# Altium integrated library Cypress Clocks & Buffers Clock Distribution.IntLib: 321 symbols (part 17 of 25)
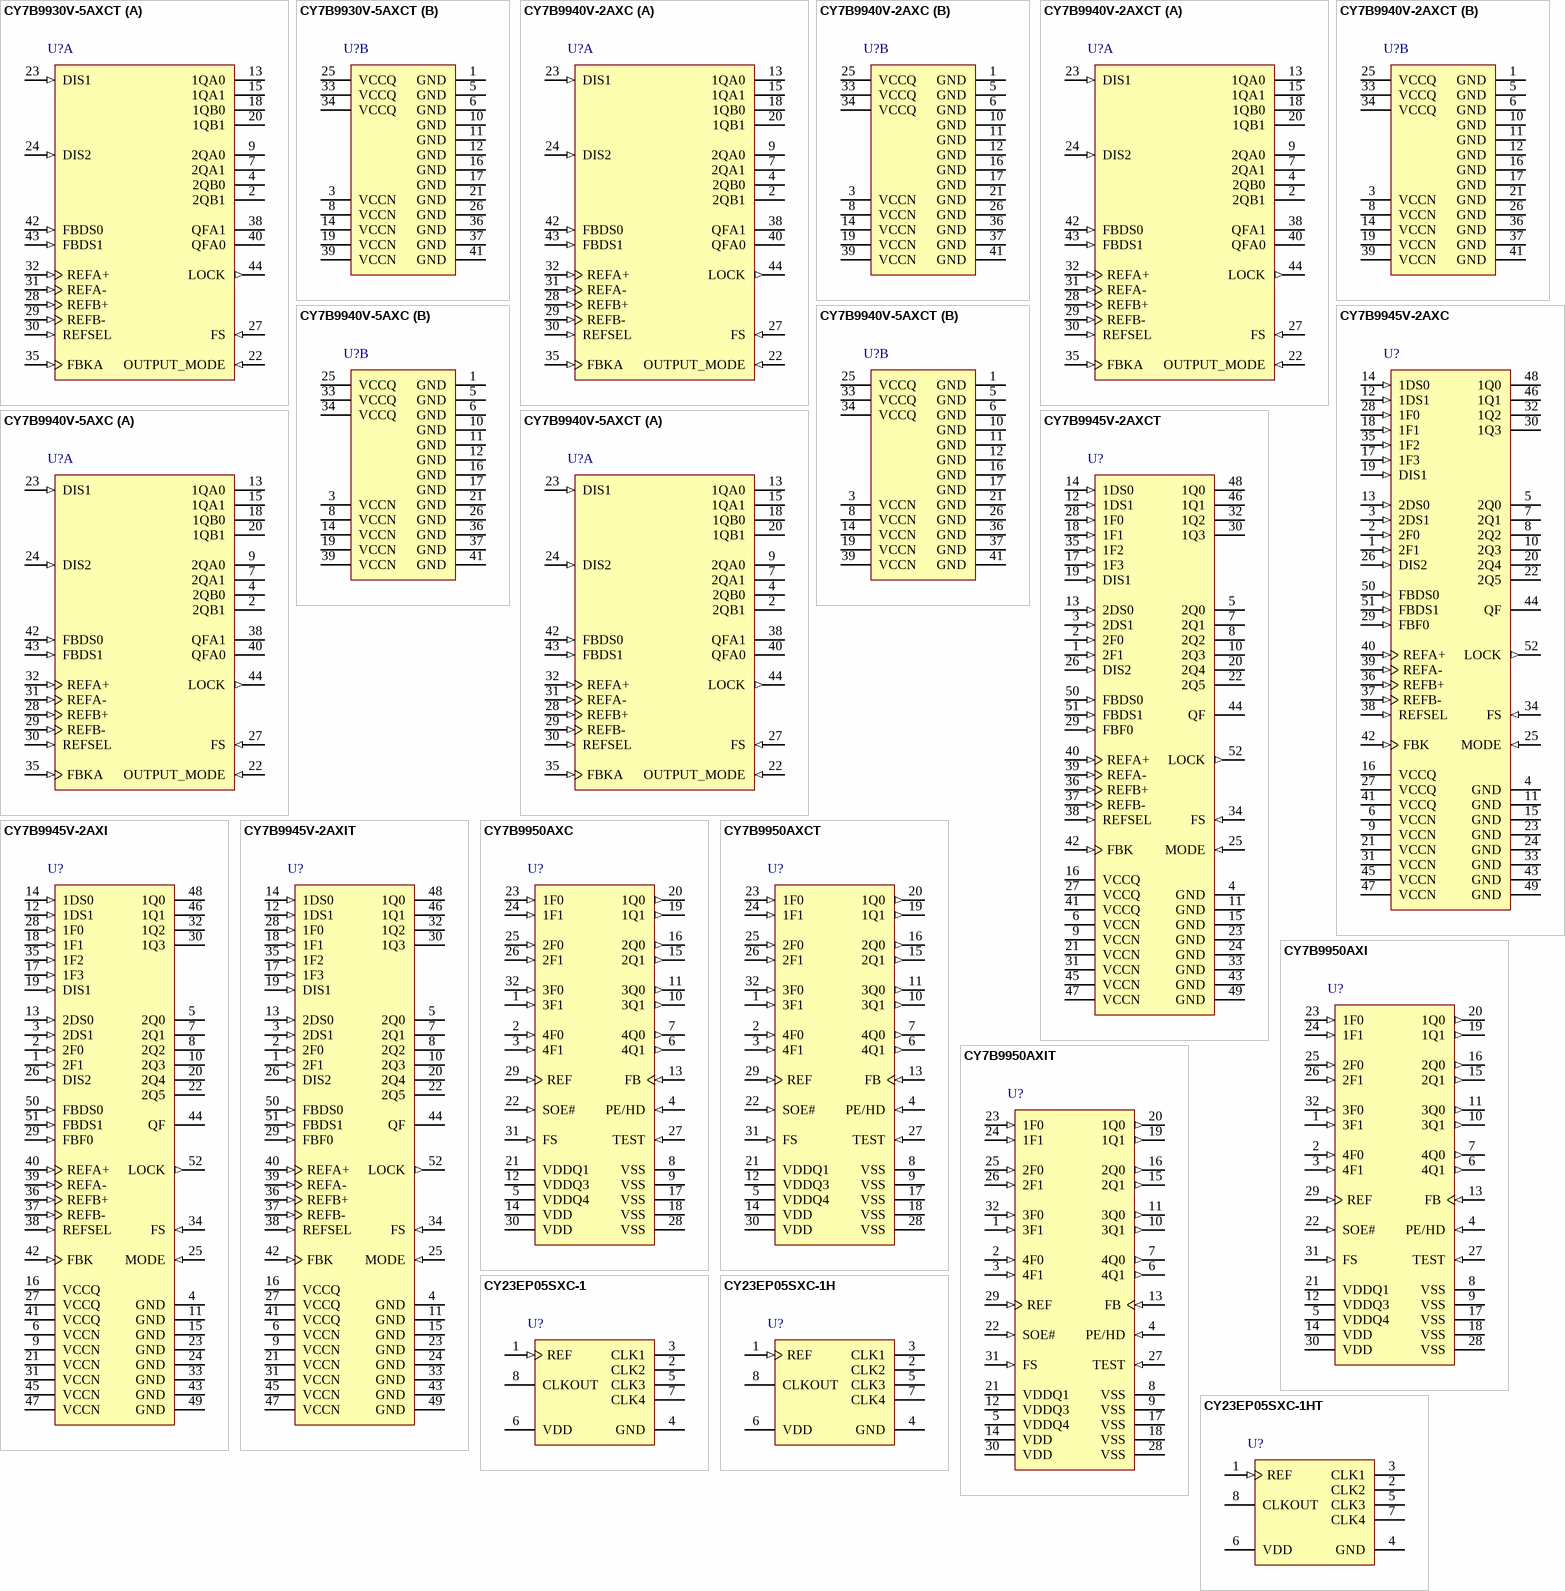
[diagram p32: symbols CY7B9930V-5AXCT to CY23EP05SXC-1HT]

## CY23EP05SXC-1HT
designator U?
Zero Delay Buffer, 2.5 / 3.3 V, 5 Outputs, 10 to 220 MHz, 0 to 70 degC, 8-Pin SOIC (SX8), Tape and Reel; Manufacturer: Cypress; PartNumber: CY23EP05SXC-1HT; Input Frequency Max. (MHz): 220; Input Frequency Min. (MHz): 10; Max. Operating Voltage (V): 3.6; Min. Operating Voltage (V): 2.3; No. of Outputs: 5; DatasheetVersion: Rev. *C; PackageVersion: Rev. *E, 06/2011; PackageReference: SX8; PackageDescription: 8-pin Lead SOIC-S08, Body 4.89 x 3.90 mm,Pitch 1.27 mm; Supplier 1: Digi-Key; Supplier Part Number 1: CY23EP05SXC-1HT-ND; Supplier 2: Mouser; Supplier Part Number 2: 727-CY23EP05SXC-1HT; Max. Operating Temp. (degreesC): 70; Min. Operating Temp. (degreesC): 0; Output Frequency Max. (MHz): 220; Output Frequency Min. (MHz): 10; Packing: Tape and Reel; RoHS: Pb-Free; Mounting Technology: Surface Mount; Code_JEDEC: MS-012; ComponentLink1Description: Manufacturer URL; ComponentLink1URL: http://www.cypress.com/; ComponentLink2Description: Datasheet; ComponentLink2URL: http://www.cypress.com/?docID=29615; ComponentLink3Description: Package Specification; ComponentLink3URL: http://www.cypress.com/?docID=39153
footprint CYP-SX8_N (SOIC, 8-Leads, Body 4.89x3.90mm, Pitch 1.27mm, IPC Medium Density)
footprint CYP-SX8_L (SOIC, 8-Leads, Body 4.89x3.90mm, Pitch 1.27mm, IPC High Density)
footprint CYP-SX8_M (SOIC, 8-Leads, Body 4.89x3.90mm, Pitch 1.27mm, IPC Low Density)
pins: 1 REF (in) "Input reference frequency", 2 CLK2 (hiz) "Buffered clock output", 3 CLK1 (hiz) "Buffered clock output", 4 GND (power) "Ground", 5 CLK3 (hiz) "Buffered clock output", 6 VDD (power) "3.3 V or 2.5 V supply", 7 CLK4 (hiz) "Buffered clock output", 8 CLKOUT (hiz) "Buffered clock output, internal feedback on this pin"

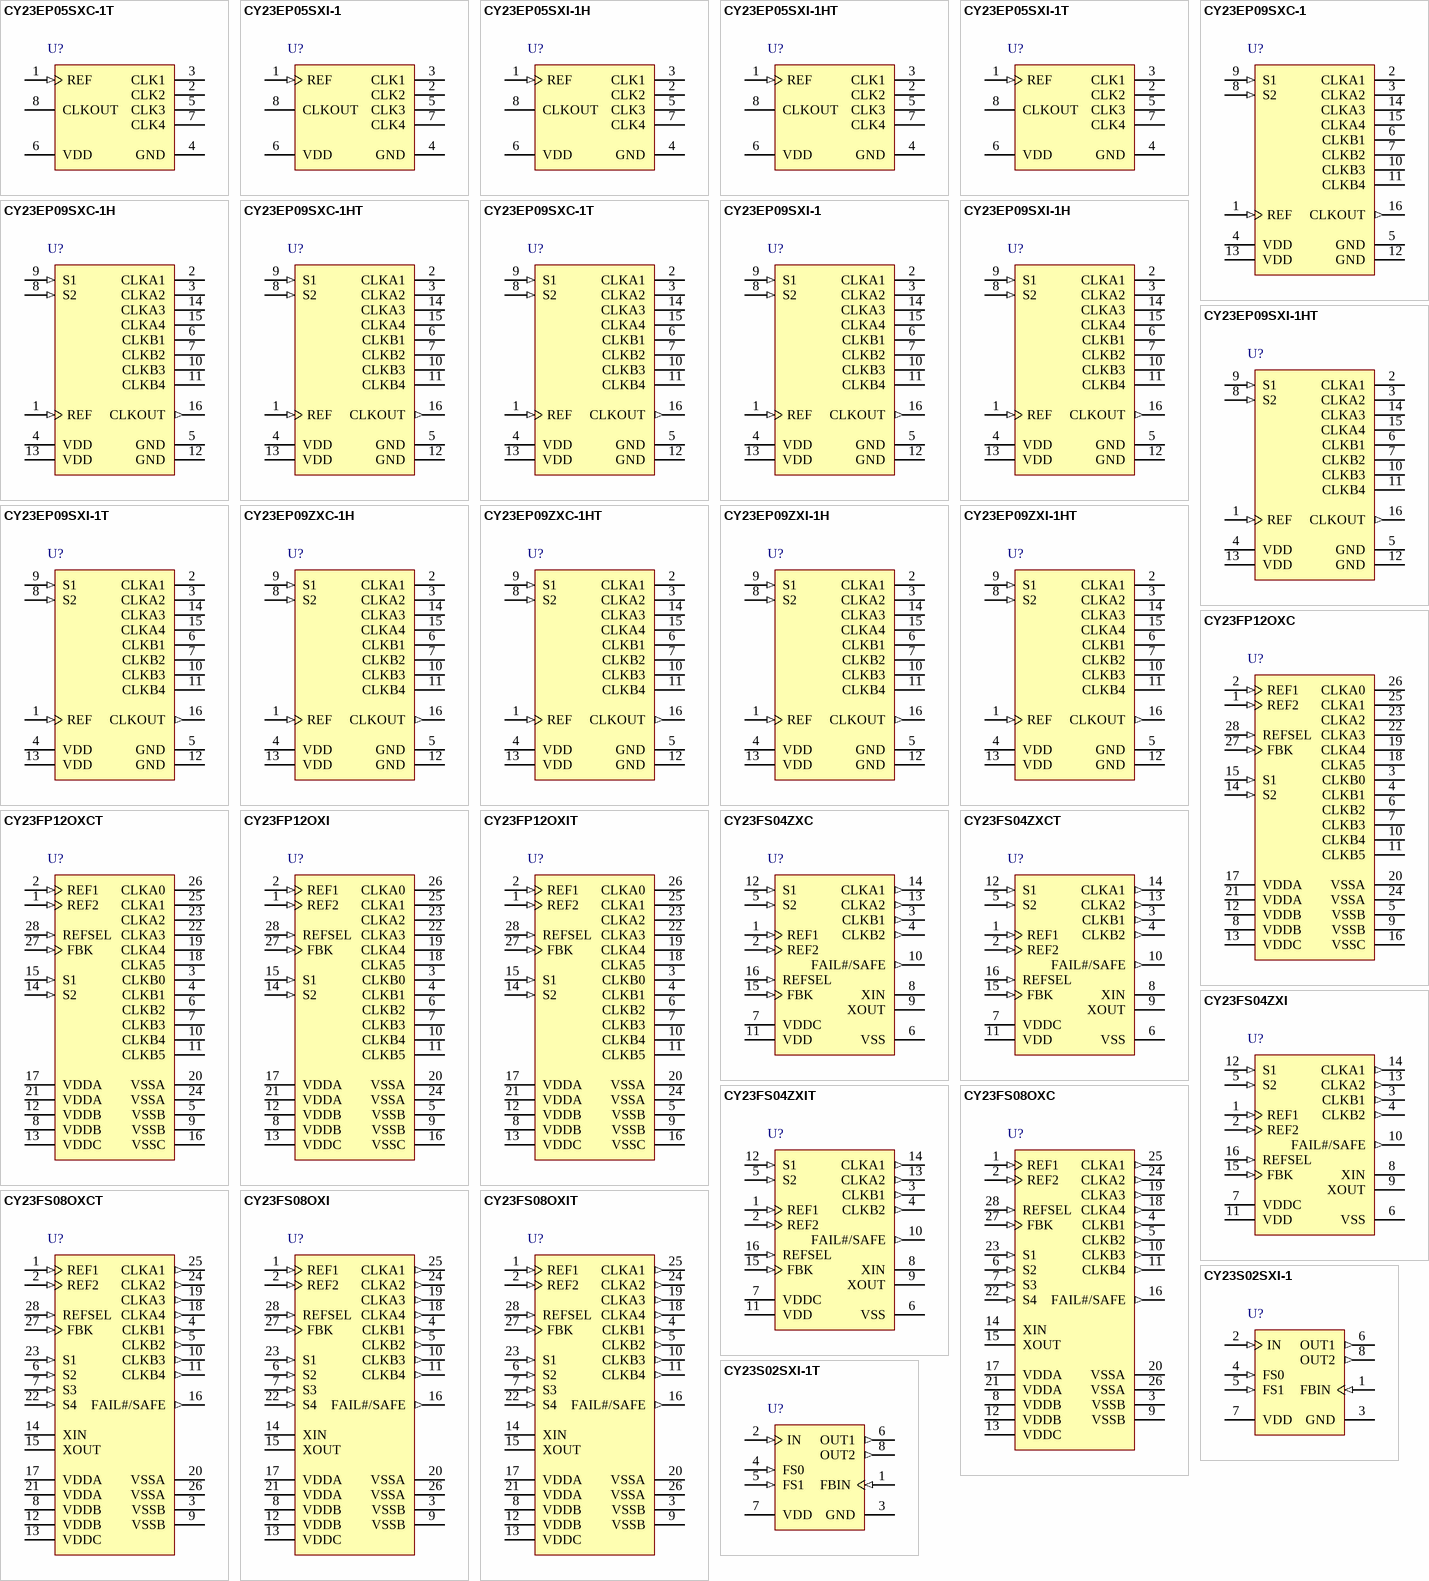
[diagram p10: symbols CY23EP05SXC-1T to CY23S02SXI-1T]

## CY23EP05SXC-1T
designator U?
Zero Delay Buffer, 2.5 / 3.3 V, 5 Outputs, 10 to 220 MHz, 0 to 70 degC, 8-Pin SOIC (SX8), Tape and Reel; Manufacturer: Cypress; PartNumber: CY23EP05SXC-1T; Input Frequency Max. (MHz): 220; Input Frequency Min. (MHz): 10; Max. Operating Voltage (V): 3.6; Min. Operating Voltage (V): 2.3; No. of Outputs: 5; DatasheetVersion: Rev. *C; PackageVersion: Rev. *E, 06/2011; PackageReference: SX8; PackageDescription: 8-pin Lead SOIC-S08, Body 4.89 x 3.90 mm,Pitch 1.27 mm; Supplier 1: Digi-Key; Supplier Part Number 1: CY23EP05SXC-1T-ND; Supplier 2: Mouser; Supplier Part Number 2: 727-CY23EP05SXC-1T; Max. Operating Temp. (degreesC): 70; Min. Operating Temp. (degreesC): 0; Output Frequency Max. (MHz): 220; Output Frequency Min. (MHz): 10; Packing: Tape and Reel; RoHS: Pb-Free; Mounting Technology: Surface Mount; Code_JEDEC: MS-012; ComponentLink1Description: Manufacturer URL; ComponentLink1URL: http://www.cypress.com/; ComponentLink2Description: Datasheet; ComponentLink2URL: http://www.cypress.com/?docID=29615; ComponentLink3Description: Package Specification; ComponentLink3URL: http://www.cypress.com/?docID=39153
footprint CYP-SX8_N (SOIC, 8-Leads, Body 4.89x3.90mm, Pitch 1.27mm, IPC Medium Density)
footprint CYP-SX8_L (SOIC, 8-Leads, Body 4.89x3.90mm, Pitch 1.27mm, IPC High Density)
footprint CYP-SX8_M (SOIC, 8-Leads, Body 4.89x3.90mm, Pitch 1.27mm, IPC Low Density)
pins: 1 REF (in) "Input reference frequency", 2 CLK2 (hiz) "Buffered clock output", 3 CLK1 (hiz) "Buffered clock output", 4 GND (power) "Ground", 5 CLK3 (hiz) "Buffered clock output", 6 VDD (power) "3.3 V or 2.5 V supply", 7 CLK4 (hiz) "Buffered clock output", 8 CLKOUT (hiz) "Buffered clock output, internal feedback on this pin"

## CY23EP05SXI-1
designator U?
Zero Delay Buffer, 2.5 / 3.3 V, 5 Outputs, 10 to 220 MHz, -40 to 85 degC, 8-Pin SOIC (SX8), Tube; Manufacturer: Cypress; PartNumber: CY23EP05SXI-1; Input Frequency Max. (MHz): 220; Input Frequency Min. (MHz): 10; Max. Operating Voltage (V): 3.6; Min. Operating Voltage (V): 2.3; No. of Outputs: 5; DatasheetVersion: Rev. *C; PackageVersion: Rev. *E, 06/2011; PackageReference: SX8; PackageDescription: 8-pin Lead SOIC-S08, Body 4.89 x 3.90 mm,Pitch 1.27 mm; Supplier 1: Digi-Key; Supplier Part Number 1: CY23EP05SXI-1-ND; Supplier 2: Mouser; Supplier Part Number 2: 727-CY23EP05SXI-1; Max. Operating Temp. (degreesC): 85; Min. Operating Temp. (degreesC): -40; Output Frequency Max. (MHz): 220; Output Frequency Min. (MHz): 10; Packing: Tube; RoHS: Pb-Free; Mounting Technology: Surface Mount; Code_JEDEC: MS-012; ComponentLink1Description: Manufacturer URL; ComponentLink1URL: http://www.cypress.com/; ComponentLink2Description: Datasheet; ComponentLink2URL: http://www.cypress.com/?docID=29615; ComponentLink3Description: Package Specification; ComponentLink3URL: http://www.cypress.com/?docID=39153
footprint CYP-SX8_N (SOIC, 8-Leads, Body 4.89x3.90mm, Pitch 1.27mm, IPC Medium Density)
footprint CYP-SX8_L (SOIC, 8-Leads, Body 4.89x3.90mm, Pitch 1.27mm, IPC High Density)
footprint CYP-SX8_M (SOIC, 8-Leads, Body 4.89x3.90mm, Pitch 1.27mm, IPC Low Density)
pins: 1 REF (in) "Input reference frequency", 2 CLK2 (hiz) "Buffered clock output", 3 CLK1 (hiz) "Buffered clock output", 4 GND (power) "Ground", 5 CLK3 (hiz) "Buffered clock output", 6 VDD (power) "3.3 V or 2.5 V supply", 7 CLK4 (hiz) "Buffered clock output", 8 CLKOUT (hiz) "Buffered clock output, internal feedback on this pin"

## CY23EP05SXI-1H
designator U?
Zero Delay Buffer, 2.5 / 3.3 V, 5 Outputs, 10 to 220 MHz, -40 to 85 degC, 8-Pin SOIC (SX8), Tube; Manufacturer: Cypress; PartNumber: CY23EP05SXI-1H; Input Frequency Max. (MHz): 220; Input Frequency Min. (MHz): 10; Max. Operating Voltage (V): 3.6; Min. Operating Voltage (V): 2.3; No. of Outputs: 5; DatasheetVersion: Rev. *C; PackageVersion: Rev. *E, 06/2011; PackageReference: SX8; PackageDescription: 8-pin Lead SOIC-S08, Body 4.89 x 3.90 mm,Pitch 1.27 mm; Supplier 1: Digi-Key; Supplier Part Number 1: CY23EP05SXI-1H-ND; Supplier 2: Mouser; Supplier Part Number 2: 727-CY23EP05SXI-1H; Max. Operating Temp. (degreesC): 85; Min. Operating Temp. (degreesC): -40; Output Frequency Max. (MHz): 220; Output Frequency Min. (MHz): 10; Packing: Tube; RoHS: Pb-Free; Mounting Technology: Surface Mount; Code_JEDEC: MS-012; ComponentLink1Description: Manufacturer URL; ComponentLink1URL: http://www.cypress.com/; ComponentLink2Description: Datasheet; ComponentLink2URL: http://www.cypress.com/?docID=29615; ComponentLink3Description: Package Specification; ComponentLink3URL: http://www.cypress.com/?docID=39153
footprint CYP-SX8_N (SOIC, 8-Leads, Body 4.89x3.90mm, Pitch 1.27mm, IPC Medium Density)
footprint CYP-SX8_L (SOIC, 8-Leads, Body 4.89x3.90mm, Pitch 1.27mm, IPC High Density)
footprint CYP-SX8_M (SOIC, 8-Leads, Body 4.89x3.90mm, Pitch 1.27mm, IPC Low Density)
pins: 1 REF (in) "Input reference frequency", 2 CLK2 (hiz) "Buffered clock output", 3 CLK1 (hiz) "Buffered clock output", 4 GND (power) "Ground", 5 CLK3 (hiz) "Buffered clock output", 6 VDD (power) "3.3 V or 2.5 V supply", 7 CLK4 (hiz) "Buffered clock output", 8 CLKOUT (hiz) "Buffered clock output, internal feedback on this pin"

## CY23EP05SXI-1HT
designator U?
Zero Delay Buffer, 2.5 / 3.3 V, 5 Outputs, 10 to 220 MHz, -40 to 85 degC, 8-Pin SOIC (SX8), Tape and Reel; Manufacturer: Cypress; PartNumber: CY23EP05SXI-1HT; Input Frequency Max. (MHz): 220; Input Frequency Min. (MHz): 10; Max. Operating Voltage (V): 3.6; Min. Operating Voltage (V): 2.3; No. of Outputs: 5; DatasheetVersion: Rev. *C; PackageVersion: Rev. *E, 06/2011; PackageReference: SX8; PackageDescription: 8-pin Lead SOIC-S08, Body 4.89 x 3.90 mm,Pitch 1.27 mm; Supplier 1: Digi-Key; Supplier Part Number 1: CY23EP05SXI-1HT-ND; Supplier 2: Mouser; Supplier Part Number 2: 727-CY23EP05SXI-1HT; Max. Operating Temp. (degreesC): 85; Min. Operating Temp. (degreesC): -40; Output Frequency Max. (MHz): 220; Output Frequency Min. (MHz): 10; Packing: Tape and Reel; RoHS: Pb-Free; Mounting Technology: Surface Mount; Code_JEDEC: MS-012; ComponentLink1Description: Manufacturer URL; ComponentLink1URL: http://www.cypress.com/; ComponentLink2Description: Datasheet; ComponentLink2URL: http://www.cypress.com/?docID=29615; ComponentLink3Description: Package Specification; ComponentLink3URL: http://www.cypress.com/?docID=39153
footprint CYP-SX8_N (SOIC, 8-Leads, Body 4.89x3.90mm, Pitch 1.27mm, IPC Medium Density)
footprint CYP-SX8_L (SOIC, 8-Leads, Body 4.89x3.90mm, Pitch 1.27mm, IPC High Density)
footprint CYP-SX8_M (SOIC, 8-Leads, Body 4.89x3.90mm, Pitch 1.27mm, IPC Low Density)
pins: 1 REF (in) "Input reference frequency", 2 CLK2 (hiz) "Buffered clock output", 3 CLK1 (hiz) "Buffered clock output", 4 GND (power) "Ground", 5 CLK3 (hiz) "Buffered clock output", 6 VDD (power) "3.3 V or 2.5 V supply", 7 CLK4 (hiz) "Buffered clock output", 8 CLKOUT (hiz) "Buffered clock output, internal feedback on this pin"

## CY23EP05SXI-1T
designator U?
Zero Delay Buffer, 2.5 / 3.3 V, 5 Outputs, 10 to 220 MHz, -40 to 85 degC, 8-Pin SOIC (SX8), Tape and Reel; Manufacturer: Cypress; PartNumber: CY23EP05SXI-1T; Input Frequency Max. (MHz): 220; Input Frequency Min. (MHz): 10; Max. Operating Voltage (V): 3.6; Min. Operating Voltage (V): 2.3; No. of Outputs: 5; DatasheetVersion: Rev. *C; PackageVersion: Rev. *E, 06/2011; PackageReference: SX8; PackageDescription: 8-pin Lead SOIC-S08, Body 4.89 x 3.90 mm,Pitch 1.27 mm; Supplier 1: Digi-Key; Supplier Part Number 1: CY23EP05SXI-1T-ND; Supplier 2: Mouser; Supplier Part Number 2: 727-CY23EP05SXI-1T; Max. Operating Temp. (degreesC): 85; Min. Operating Temp. (degreesC): -40; Output Frequency Max. (MHz): 220; Output Frequency Min. (MHz): 10; Packing: Tape and Reel; RoHS: Pb-Free; Mounting Technology: Surface Mount; Code_JEDEC: MS-012; ComponentLink1Description: Manufacturer URL; ComponentLink1URL: http://www.cypress.com/; ComponentLink2Description: Datasheet; ComponentLink2URL: http://www.cypress.com/?docID=29615; ComponentLink3Description: Package Specification; ComponentLink3URL: http://www.cypress.com/?docID=39153
footprint CYP-SX8_N (SOIC, 8-Leads, Body 4.89x3.90mm, Pitch 1.27mm, IPC Medium Density)
footprint CYP-SX8_L (SOIC, 8-Leads, Body 4.89x3.90mm, Pitch 1.27mm, IPC High Density)
footprint CYP-SX8_M (SOIC, 8-Leads, Body 4.89x3.90mm, Pitch 1.27mm, IPC Low Density)
pins: 1 REF (in) "Input reference frequency", 2 CLK2 (hiz) "Buffered clock output", 3 CLK1 (hiz) "Buffered clock output", 4 GND (power) "Ground", 5 CLK3 (hiz) "Buffered clock output", 6 VDD (power) "3.3 V or 2.5 V supply", 7 CLK4 (hiz) "Buffered clock output", 8 CLKOUT (hiz) "Buffered clock output, internal feedback on this pin"

## CY23EP09SXC-1
designator U?
Low Jitter, Zero Delay Buffer, 2.5 / 3.3 V, 9 Outputs, 10 to 220 MHz, 0 to 70 degC, 16-Pin SOIC (SX16), Tube; Manufacturer: Cypress; PartNumber: CY23EP09SXC-1; Input Frequency Max. (MHz): 220; Input Frequency Min. (MHz): 10; Max. Operating Voltage (V): 3.6; Min. Operating Voltage (V): 2.3; No. of Outputs: 9; DatasheetVersion: Rev. *C; PackageVersion: Rev. *E, 09/2012; PackageReference: SX16; PackageDescription: 16-Pin SOIC (150 MIL), Body 9.89 x 3.90 mm, Pitch 1.27 mm; Supplier 1: Digi-Key; Supplier Part Number 1: CY23EP09SXC-1-ND; Supplier 2: Mouser; Supplier Part Number 2: 727-CY23EP09SXC-1; Max. Operating Temp. (degreesC): 70; Min. Operating Temp. (degreesC): 0; Output Frequency Max. (MHz): 220; Output Frequency Min. (MHz): 10; Packing: Tube; RoHS: Pb-Free; Mounting Technology: Surface Mount; Code_JEDEC: MS-012; ComponentLink1Description: Manufacturer URL; ComponentLink1URL: http://www.cypress.com/; ComponentLink2Description: Datasheet; ComponentLink2URL: http://www.cypress.com/?docID=29430; ComponentLink3Description: Package Specification; ComponentLink3URL: http://www.cypress.com/?docID=39437
footprint CYP-SX16_N (SOIC, 16-Leads, Body 9.9x3.9mm, Pitch 1.27mm, IPC Medium Density)
footprint CYP-SX16_L (SOIC, 16-Leads, Body 9.9x3.9mm, Pitch 1.27mm, IPC High Density)
footprint CYP-SX16_M (SOIC, 16-Leads, Body 9.9x3.9mm, Pitch 1.27mm, IPC Low Density)
pins: 1 REF (in) "Input reference frequency", 2 CLKA1 (hiz) "Buffered clock output, Bank A", 3 CLKA2 (hiz) "Buffered clock output, Bank A", 4 VDD (power) "3.3 V or 2.5 V supply", 5 GND (power) "Ground", 6 CLKB1 (hiz) "Buffered clock output, Bank B", 7 CLKB2 (hiz) "Buffered clock output, Bank B", 8 S2 (in) "Select input, bit 2", 9 S1 (in) "Select input, bit 1", 10 CLKB3 (hiz) "Buffered clock output, Bank B", 11 CLKB4 (hiz) "Buffered clock output, Bank B", 12 GND (power) "Ground", 13 VDD (power) "3.3 V or 2.5 V supply", 14 CLKA3 (hiz) "Buffered clock output, Bank A", 15 CLKA4 (hiz) "Buffered clock output, Bank A", 16 CLKOUT (out) "Buffered output, internal feedback on this pin"

## CY23EP09SXC-1H
designator U?
Low Jitter, Zero Delay Buffer, 2.5 / 3.3 V, 9 Outputs, 10 to 220 MHz, 0 to 70 degC, 16-Pin SOIC (SX16), Tube; Manufacturer: Cypress; PartNumber: CY23EP09SXC-1H; Input Frequency Max. (MHz): 220; Input Frequency Min. (MHz): 10; Max. Operating Voltage (V): 3.6; Min. Operating Voltage (V): 2.3; No. of Outputs: 9; DatasheetVersion: Rev. *C; PackageVersion: Rev. *E, 09/2012; PackageReference: SX16; PackageDescription: 16-Pin SOIC (150 MIL), Body 9.89 x 3.90 mm, Pitch 1.27 mm; Supplier 1: Digi-Key; Supplier Part Number 1: CY23EP09SXC-1H-ND; Supplier 2: Mouser; Supplier Part Number 2: 727-CY23EP09SXC-1H; Max. Operating Temp. (degreesC): 70; Min. Operating Temp. (degreesC): 0; Output Frequency Max. (MHz): 220; Output Frequency Min. (MHz): 10; Packing: Tube; RoHS: Pb-Free; Mounting Technology: Surface Mount; Code_JEDEC: MS-012; ComponentLink1Description: Manufacturer URL; ComponentLink1URL: http://www.cypress.com/; ComponentLink2Description: Datasheet; ComponentLink2URL: http://www.cypress.com/?docID=29430; ComponentLink3Description: Package Specification; ComponentLink3URL: http://www.cypress.com/?docID=39437
footprint CYP-SX16_N (SOIC, 16-Leads, Body 9.9x3.9mm, Pitch 1.27mm, IPC Medium Density)
footprint CYP-SX16_L (SOIC, 16-Leads, Body 9.9x3.9mm, Pitch 1.27mm, IPC High Density)
footprint CYP-SX16_M (SOIC, 16-Leads, Body 9.9x3.9mm, Pitch 1.27mm, IPC Low Density)
pins: 1 REF (in) "Input reference frequency", 2 CLKA1 (hiz) "Buffered clock output, Bank A", 3 CLKA2 (hiz) "Buffered clock output, Bank A", 4 VDD (power) "3.3 V or 2.5 V supply", 5 GND (power) "Ground", 6 CLKB1 (hiz) "Buffered clock output, Bank B", 7 CLKB2 (hiz) "Buffered clock output, Bank B", 8 S2 (in) "Select input, bit 2", 9 S1 (in) "Select input, bit 1", 10 CLKB3 (hiz) "Buffered clock output, Bank B", 11 CLKB4 (hiz) "Buffered clock output, Bank B", 12 GND (power) "Ground", 13 VDD (power) "3.3 V or 2.5 V supply", 14 CLKA3 (hiz) "Buffered clock output, Bank A", 15 CLKA4 (hiz) "Buffered clock output, Bank A", 16 CLKOUT (out) "Buffered output, internal feedback on this pin"

## CY23EP09SXC-1HT
designator U?
Low Jitter, Zero Delay Buffer, 2.5 / 3.3 V, 9 Outputs, 10 to 220 MHz, 0 to 70 degC, 16-Pin SOIC (SX16), Tape and Reel; Manufacturer: Cypress; PartNumber: CY23EP09SXC-1HT; Input Frequency Max. (MHz): 220; Input Frequency Min. (MHz): 10; Max. Operating Voltage (V): 3.6; Min. Operating Voltage (V): 2.3; No. of Outputs: 9; DatasheetVersion: Rev. *C; PackageVersion: Rev. *E, 09/2012; PackageReference: SX16; PackageDescription: 16-Pin SOIC (150 MIL), Body 9.89 x 3.90 mm, Pitch 1.27 mm; Supplier 1: Digi-Key; Supplier Part Number 1: CY23EP09SXC-1HT-ND; Supplier 2: Mouser; Supplier Part Number 2: 727-CY23EP09SXC-1HT; Max. Operating Temp. (degreesC): 70; Min. Operating Temp. (degreesC): 0; Output Frequency Max. (MHz): 220; Output Frequency Min. (MHz): 10; Packing: Tape and Reel; RoHS: Pb-Free; Mounting Technology: Surface Mount; Code_JEDEC: MS-012; ComponentLink1Description: Manufacturer URL; ComponentLink1URL: http://www.cypress.com/; ComponentLink2Description: Datasheet; ComponentLink2URL: http://www.cypress.com/?docID=29430; ComponentLink3Description: Package Specification; ComponentLink3URL: http://www.cypress.com/?docID=39437
footprint CYP-SX16_N (SOIC, 16-Leads, Body 9.9x3.9mm, Pitch 1.27mm, IPC Medium Density)
footprint CYP-SX16_L (SOIC, 16-Leads, Body 9.9x3.9mm, Pitch 1.27mm, IPC High Density)
footprint CYP-SX16_M (SOIC, 16-Leads, Body 9.9x3.9mm, Pitch 1.27mm, IPC Low Density)
pins: 1 REF (in) "Input reference frequency", 2 CLKA1 (hiz) "Buffered clock output, Bank A", 3 CLKA2 (hiz) "Buffered clock output, Bank A", 4 VDD (power) "3.3 V or 2.5 V supply", 5 GND (power) "Ground", 6 CLKB1 (hiz) "Buffered clock output, Bank B", 7 CLKB2 (hiz) "Buffered clock output, Bank B", 8 S2 (in) "Select input, bit 2", 9 S1 (in) "Select input, bit 1", 10 CLKB3 (hiz) "Buffered clock output, Bank B", 11 CLKB4 (hiz) "Buffered clock output, Bank B", 12 GND (power) "Ground", 13 VDD (power) "3.3 V or 2.5 V supply", 14 CLKA3 (hiz) "Buffered clock output, Bank A", 15 CLKA4 (hiz) "Buffered clock output, Bank A", 16 CLKOUT (out) "Buffered output, internal feedback on this pin"

## CY23EP09SXC-1T
designator U?
Low Jitter, Zero Delay Buffer, 2.5 / 3.3 V, 9 Outputs, 10 to 220 MHz, 0 to 70 degC, 16-Pin SOIC (SX16), Tape and Reel; Manufacturer: Cypress; PartNumber: CY23EP09SXC-1T; Input Frequency Max. (MHz): 220; Input Frequency Min. (MHz): 10; Max. Operating Voltage (V): 3.6; Min. Operating Voltage (V): 2.3; No. of Outputs: 9; DatasheetVersion: Rev. *C; PackageVersion: Rev. *E, 09/2012; PackageReference: SX16; PackageDescription: 16-Pin SOIC (150 MIL), Body 9.89 x 3.90 mm, Pitch 1.27 mm; Supplier 1: Digi-Key; Supplier Part Number 1: CY23EP09SXC-1T-ND; Supplier 2: Mouser; Supplier Part Number 2: 727-CY23EP09SXC-1T; Max. Operating Temp. (degreesC): 70; Min. Operating Temp. (degreesC): 0; Output Frequency Max. (MHz): 220; Output Frequency Min. (MHz): 10; Packing: Tape and Reel; RoHS: Pb-Free; Mounting Technology: Surface Mount; Code_JEDEC: MS-012; ComponentLink1Description: Manufacturer URL; ComponentLink1URL: http://www.cypress.com/; ComponentLink2Description: Datasheet; ComponentLink2URL: http://www.cypress.com/?docID=29430; ComponentLink3Description: Package Specification; ComponentLink3URL: http://www.cypress.com/?docID=39437
footprint CYP-SX16_N (SOIC, 16-Leads, Body 9.9x3.9mm, Pitch 1.27mm, IPC Medium Density)
footprint CYP-SX16_L (SOIC, 16-Leads, Body 9.9x3.9mm, Pitch 1.27mm, IPC High Density)
footprint CYP-SX16_M (SOIC, 16-Leads, Body 9.9x3.9mm, Pitch 1.27mm, IPC Low Density)
pins: 1 REF (in) "Input reference frequency", 2 CLKA1 (hiz) "Buffered clock output, Bank A", 3 CLKA2 (hiz) "Buffered clock output, Bank A", 4 VDD (power) "3.3 V or 2.5 V supply", 5 GND (power) "Ground", 6 CLKB1 (hiz) "Buffered clock output, Bank B", 7 CLKB2 (hiz) "Buffered clock output, Bank B", 8 S2 (in) "Select input, bit 2", 9 S1 (in) "Select input, bit 1", 10 CLKB3 (hiz) "Buffered clock output, Bank B", 11 CLKB4 (hiz) "Buffered clock output, Bank B", 12 GND (power) "Ground", 13 VDD (power) "3.3 V or 2.5 V supply", 14 CLKA3 (hiz) "Buffered clock output, Bank A", 15 CLKA4 (hiz) "Buffered clock output, Bank A", 16 CLKOUT (out) "Buffered output, internal feedback on this pin"

## CY23EP09SXI-1
designator U?
Low Jitter, Zero Delay Buffer, 2.5 / 3.3 V, 9 Outputs, 10 to 220 MHz, -40 to 85 degC, 16-Pin SOIC (SX16), Tube; Manufacturer: Cypress; PartNumber: CY23EP09SXI-1; Input Frequency Max. (MHz): 220; Input Frequency Min. (MHz): 10; Max. Operating Voltage (V): 3.6; Min. Operating Voltage (V): 2.3; No. of Outputs: 9; DatasheetVersion: Rev. *C; PackageVersion: Rev. *E, 09/2012; PackageReference: SX16; PackageDescription: 16-Pin SOIC (150 MIL), Body 9.89 x 3.90 mm, Pitch 1.27 mm; Supplier 1: Digi-Key; Supplier Part Number 1: CY23EP09SXI-1-ND; Supplier 2: Mouser; Supplier Part Number 2: 727-CY23EP09SXI1; Max. Operating Temp. (degreesC): 85; Min. Operating Temp. (degreesC): -40; Output Frequency Max. (MHz): 220; Output Frequency Min. (MHz): 10; Packing: Tube; RoHS: Pb-Free; Mounting Technology: Surface Mount; Code_JEDEC: MS-012; ComponentLink1Description: Manufacturer URL; ComponentLink1URL: http://www.cypress.com/; ComponentLink2Description: Datasheet; ComponentLink2URL: http://www.cypress.com/?docID=29430; ComponentLink3Description: Package Specification; ComponentLink3URL: http://www.cypress.com/?docID=39437
footprint CYP-SX16_N (SOIC, 16-Leads, Body 9.9x3.9mm, Pitch 1.27mm, IPC Medium Density)
footprint CYP-SX16_L (SOIC, 16-Leads, Body 9.9x3.9mm, Pitch 1.27mm, IPC High Density)
footprint CYP-SX16_M (SOIC, 16-Leads, Body 9.9x3.9mm, Pitch 1.27mm, IPC Low Density)
pins: 1 REF (in) "Input reference frequency", 2 CLKA1 (hiz) "Buffered clock output, Bank A", 3 CLKA2 (hiz) "Buffered clock output, Bank A", 4 VDD (power) "3.3 V or 2.5 V supply", 5 GND (power) "Ground", 6 CLKB1 (hiz) "Buffered clock output, Bank B", 7 CLKB2 (hiz) "Buffered clock output, Bank B", 8 S2 (in) "Select input, bit 2", 9 S1 (in) "Select input, bit 1", 10 CLKB3 (hiz) "Buffered clock output, Bank B", 11 CLKB4 (hiz) "Buffered clock output, Bank B", 12 GND (power) "Ground", 13 VDD (power) "3.3 V or 2.5 V supply", 14 CLKA3 (hiz) "Buffered clock output, Bank A", 15 CLKA4 (hiz) "Buffered clock output, Bank A", 16 CLKOUT (out) "Buffered output, internal feedback on this pin"

## CY23EP09SXI-1H
designator U?
Low Jitter, Zero Delay Buffer, 2.5 / 3.3 V, 9 Outputs, 10 to 220 MHz, -40 to 85 degC, 16-Pin SOIC (SX16), Tube; Manufacturer: Cypress; PartNumber: CY23EP09SXI-1H; Input Frequency Max. (MHz): 220; Input Frequency Min. (MHz): 10; Max. Operating Voltage (V): 3.6; Min. Operating Voltage (V): 2.3; No. of Outputs: 9; DatasheetVersion: Rev. *C; PackageVersion: Rev. *E, 09/2012; PackageReference: SX16; PackageDescription: 16-Pin SOIC (150 MIL), Body 9.89 x 3.90 mm, Pitch 1.27 mm; Supplier 1: Digi-Key; Supplier Part Number 1: CY23EP09SXI-1H-ND; Supplier 2: Mouser; Supplier Part Number 2: 727-CY23EP09SXI1H; Max. Operating Temp. (degreesC): 85; Min. Operating Temp. (degreesC): -40; Output Frequency Max. (MHz): 220; Output Frequency Min. (MHz): 10; Packing: Tube; RoHS: Pb-Free; Mounting Technology: Surface Mount; Code_JEDEC: MS-012; ComponentLink1Description: Manufacturer URL; ComponentLink1URL: http://www.cypress.com/; ComponentLink2Description: Datasheet; ComponentLink2URL: http://www.cypress.com/?docID=29430; ComponentLink3Description: Package Specification; ComponentLink3URL: http://www.cypress.com/?docID=39437
footprint CYP-SX16_N (SOIC, 16-Leads, Body 9.9x3.9mm, Pitch 1.27mm, IPC Medium Density)
footprint CYP-SX16_L (SOIC, 16-Leads, Body 9.9x3.9mm, Pitch 1.27mm, IPC High Density)
footprint CYP-SX16_M (SOIC, 16-Leads, Body 9.9x3.9mm, Pitch 1.27mm, IPC Low Density)
pins: 1 REF (in) "Input reference frequency", 2 CLKA1 (hiz) "Buffered clock output, Bank A", 3 CLKA2 (hiz) "Buffered clock output, Bank A", 4 VDD (power) "3.3 V or 2.5 V supply", 5 GND (power) "Ground", 6 CLKB1 (hiz) "Buffered clock output, Bank B", 7 CLKB2 (hiz) "Buffered clock output, Bank B", 8 S2 (in) "Select input, bit 2", 9 S1 (in) "Select input, bit 1", 10 CLKB3 (hiz) "Buffered clock output, Bank B", 11 CLKB4 (hiz) "Buffered clock output, Bank B", 12 GND (power) "Ground", 13 VDD (power) "3.3 V or 2.5 V supply", 14 CLKA3 (hiz) "Buffered clock output, Bank A", 15 CLKA4 (hiz) "Buffered clock output, Bank A", 16 CLKOUT (out) "Buffered output, internal feedback on this pin"

## CY23EP09SXI-1HT
designator U?
Low Jitter, Zero Delay Buffer, 2.5 / 3.3 V, 9 Outputs, 10 to 220 MHz, -40 to 85 degC, 16-Pin SOIC (SX16), Tape and Reel; Manufacturer: Cypress; PartNumber: CY23EP09SXI-1HT; Input Frequency Max. (MHz): 220; Input Frequency Min. (MHz): 10; Max. Operating Voltage (V): 3.6; Min. Operating Voltage (V): 2.3; No. of Outputs: 9; DatasheetVersion: Rev. *C; PackageVersion: Rev. *E, 09/2012; PackageReference: SX16; PackageDescription: 16-Pin SOIC (150 MIL), Body 9.89 x 3.90 mm, Pitch 1.27 mm; Supplier 1: Digi-Key; Supplier Part Number 1: CY23EP09SXI-1HT-ND; Supplier 2: Mouser; Supplier Part Number 2: 727-CY23EP09SXI-1HT; Max. Operating Temp. (degreesC): 85; Min. Operating Temp. (degreesC): -40; Output Frequency Max. (MHz): 220; Output Frequency Min. (MHz): 10; Packing: Tape and Reel; RoHS: Pb-Free; Mounting Technology: Surface Mount; Code_JEDEC: MS-012; ComponentLink1Description: Manufacturer URL; ComponentLink1URL: http://www.cypress.com/; ComponentLink2Description: Datasheet; ComponentLink2URL: http://www.cypress.com/?docID=29430; ComponentLink3Description: Package Specification; ComponentLink3URL: http://www.cypress.com/?docID=39437
footprint CYP-SX16_N (SOIC, 16-Leads, Body 9.9x3.9mm, Pitch 1.27mm, IPC Medium Density)
footprint CYP-SX16_L (SOIC, 16-Leads, Body 9.9x3.9mm, Pitch 1.27mm, IPC High Density)
footprint CYP-SX16_M (SOIC, 16-Leads, Body 9.9x3.9mm, Pitch 1.27mm, IPC Low Density)
pins: 1 REF (in) "Input reference frequency", 2 CLKA1 (hiz) "Buffered clock output, Bank A", 3 CLKA2 (hiz) "Buffered clock output, Bank A", 4 VDD (power) "3.3 V or 2.5 V supply", 5 GND (power) "Ground", 6 CLKB1 (hiz) "Buffered clock output, Bank B", 7 CLKB2 (hiz) "Buffered clock output, Bank B", 8 S2 (in) "Select input, bit 2", 9 S1 (in) "Select input, bit 1", 10 CLKB3 (hiz) "Buffered clock output, Bank B", 11 CLKB4 (hiz) "Buffered clock output, Bank B", 12 GND (power) "Ground", 13 VDD (power) "3.3 V or 2.5 V supply", 14 CLKA3 (hiz) "Buffered clock output, Bank A", 15 CLKA4 (hiz) "Buffered clock output, Bank A", 16 CLKOUT (out) "Buffered output, internal feedback on this pin"

## CY23EP09SXI-1T
designator U?
Low Jitter, Zero Delay Buffer, 2.5 / 3.3 V, 9 Outputs, 10 to 220 MHz, -40 to 85 degC, 16-Pin SOIC (SX16), Tape and Reel; Manufacturer: Cypress; PartNumber: CY23EP09SXI-1T; Input Frequency Max. (MHz): 220; Input Frequency Min. (MHz): 10; Max. Operating Voltage (V): 3.6; Min. Operating Voltage (V): 2.3; No. of Outputs: 9; DatasheetVersion: Rev. *C; PackageVersion: Rev. *E, 09/2012; PackageReference: SX16; PackageDescription: 16-Pin SOIC (150 MIL), Body 9.89 x 3.90 mm, Pitch 1.27 mm; Supplier 1: Digi-Key; Supplier Part Number 1: CY23EP09SXI-1T-ND; Supplier 2: Mouser; Supplier Part Number 2: 727-CY23EP09SXI1T; Max. Operating Temp. (degreesC): 85; Min. Operating Temp. (degreesC): -40; Output Frequency Max. (MHz): 220; Output Frequency Min. (MHz): 10; Packing: Tape and Reel; RoHS: Pb-Free; Mounting Technology: Surface Mount; Code_JEDEC: MS-012; ComponentLink1Description: Manufacturer URL; ComponentLink1URL: http://www.cypress.com/; ComponentLink2Description: Datasheet; ComponentLink2URL: http://www.cypress.com/?docID=29430; ComponentLink3Description: Package Specification; ComponentLink3URL: http://www.cypress.com/?docID=39437
footprint CYP-SX16_N (SOIC, 16-Leads, Body 9.9x3.9mm, Pitch 1.27mm, IPC Medium Density)
footprint CYP-SX16_L (SOIC, 16-Leads, Body 9.9x3.9mm, Pitch 1.27mm, IPC High Density)
footprint CYP-SX16_M (SOIC, 16-Leads, Body 9.9x3.9mm, Pitch 1.27mm, IPC Low Density)
pins: 1 REF (in) "Input reference frequency", 2 CLKA1 (hiz) "Buffered clock output, Bank A", 3 CLKA2 (hiz) "Buffered clock output, Bank A", 4 VDD (power) "3.3 V or 2.5 V supply", 5 GND (power) "Ground", 6 CLKB1 (hiz) "Buffered clock output, Bank B", 7 CLKB2 (hiz) "Buffered clock output, Bank B", 8 S2 (in) "Select input, bit 2", 9 S1 (in) "Select input, bit 1", 10 CLKB3 (hiz) "Buffered clock output, Bank B", 11 CLKB4 (hiz) "Buffered clock output, Bank B", 12 GND (power) "Ground", 13 VDD (power) "3.3 V or 2.5 V supply", 14 CLKA3 (hiz) "Buffered clock output, Bank A", 15 CLKA4 (hiz) "Buffered clock output, Bank A", 16 CLKOUT (out) "Buffered output, internal feedback on this pin"

## CY23EP09ZXC-1H
designator U?
Low Jitter, Zero Delay Buffer, 2.5 / 3.3 V, 9 Outputs, 10 to 220 MHz, 0 to 70 degC, 16-Pin TSSOP (ZX16), Tube; Manufacturer: Cypress; PartNumber: CY23EP09ZXC-1H; Input Frequency Max. (MHz): 220; Input Frequency Min. (MHz): 10; Max. Operating Voltage (V): 3.6; Min. Operating Voltage (V): 2.3; No. of Outputs: 9; DatasheetVersion: Rev. *C; PackageVersion: Rev. *D, 09/2011; PackageReference: ZX16; PackageDescription: 16-Pin Thin Shrink Small Outline Package, Body 5 x 4.4 mm, Pitch 0.65 mm; Supplier 1: Digi-Key; Supplier Part Number 1: 428-2212-5-ND; Supplier 2: Mouser; Supplier Part Number 2: 727-CY23EP09ZXC-1H; Max. Operating Temp. (degreesC): 70; Min. Operating Temp. (degreesC): 0; Output Frequency Max. (MHz): 220; Output Frequency Min. (MHz): 10; Packing: Tube; RoHS: Pb-Free; Mounting Technology: Surface Mount; Code_JEDEC: MO-153; ComponentLink1Description: Manufacturer URL; ComponentLink1URL: http://www.cypress.com/; ComponentLink2Description: Datasheet; ComponentLink2URL: http://www.cypress.com/?docID=29430; ComponentLink3Description: Package Specification; ComponentLink3URL: http://www.cypress.com/?docID=39143
footprint CYP-ZX16_N (SOP, 16-Leads, Body 5.1x4.5mm, Pitch 0.65mm, IPC Medium Density)
footprint CYP-ZX16_L (SOP, 16-Leads, Body 5.1x4.5mm, Pitch 0.65mm, IPC High Density)
footprint CYP-ZX16_M (SOP, 16-Leads, Body 5.1x4.5mm, Pitch 0.65mm, IPC Low Density)
pins: 1 REF (in) "Input reference frequency", 2 CLKA1 (hiz) "Buffered clock output, Bank A", 3 CLKA2 (hiz) "Buffered clock output, Bank A", 4 VDD (power) "3.3 V or 2.5 V supply", 5 GND (power) "Ground", 6 CLKB1 (hiz) "Buffered clock output, Bank B", 7 CLKB2 (hiz) "Buffered clock output, Bank B", 8 S2 (in) "Select input, bit 2", 9 S1 (in) "Select input, bit 1", 10 CLKB3 (hiz) "Buffered clock output, Bank B", 11 CLKB4 (hiz) "Buffered clock output, Bank B", 12 GND (power) "Ground", 13 VDD (power) "3.3 V or 2.5 V supply", 14 CLKA3 (hiz) "Buffered clock output, Bank A", 15 CLKA4 (hiz) "Buffered clock output, Bank A", 16 CLKOUT (out) "Buffered output, internal feedback on this pin"

## CY23EP09ZXC-1HT
designator U?
Low Jitter, Zero Delay Buffer, 2.5 / 3.3 V, 9 Outputs, 10 to 220 MHz, 0 to 70 degC, 16-Pin TSSOP (ZX16), Tape and Reel; Manufacturer: Cypress; PartNumber: CY23EP09ZXC-1HT; Input Frequency Max. (MHz): 220; Input Frequency Min. (MHz): 10; Max. Operating Voltage (V): 3.6; Min. Operating Voltage (V): 2.3; No. of Outputs: 9; DatasheetVersion: Rev. *C; PackageVersion: Rev. *D, 09/2011; PackageReference: ZX16; PackageDescription: 16-Pin Thin Shrink Small Outline Package, Body 5 x 4.4 mm, Pitch 0.65 mm; Supplier 1: Digi-Key; Supplier Part Number 1: CY23EP09ZXC-1HT-ND; Supplier 2: Newark; Supplier Part Number 2: 19M5936; Supplier 3: Mouser; Supplier Part Number 3: 727-CY23EP09ZXC-1HT; Max. Operating Temp. (degreesC): 70; Min. Operating Temp. (degreesC): 0; Output Frequency Max. (MHz): 220; Output Frequency Min. (MHz): 10; Packing: Tape and Reel; RoHS: Pb-Free; Mounting Technology: Surface Mount; Code_JEDEC: MO-153; ComponentLink1Description: Manufacturer URL; ComponentLink1URL: http://www.cypress.com/; ComponentLink2Description: Datasheet; ComponentLink2URL: http://www.cypress.com/?docID=29430; ComponentLink3Description: Package Specification; ComponentLink3URL: http://www.cypress.com/?docID=39143
footprint CYP-ZX16_N (SOP, 16-Leads, Body 5.1x4.5mm, Pitch 0.65mm, IPC Medium Density)
footprint CYP-ZX16_L (SOP, 16-Leads, Body 5.1x4.5mm, Pitch 0.65mm, IPC High Density)
footprint CYP-ZX16_M (SOP, 16-Leads, Body 5.1x4.5mm, Pitch 0.65mm, IPC Low Density)
pins: 1 REF (in) "Input reference frequency", 2 CLKA1 (hiz) "Buffered clock output, Bank A", 3 CLKA2 (hiz) "Buffered clock output, Bank A", 4 VDD (power) "3.3 V or 2.5 V supply", 5 GND (power) "Ground", 6 CLKB1 (hiz) "Buffered clock output, Bank B", 7 CLKB2 (hiz) "Buffered clock output, Bank B", 8 S2 (in) "Select input, bit 2", 9 S1 (in) "Select input, bit 1", 10 CLKB3 (hiz) "Buffered clock output, Bank B", 11 CLKB4 (hiz) "Buffered clock output, Bank B", 12 GND (power) "Ground", 13 VDD (power) "3.3 V or 2.5 V supply", 14 CLKA3 (hiz) "Buffered clock output, Bank A", 15 CLKA4 (hiz) "Buffered clock output, Bank A", 16 CLKOUT (out) "Buffered output, internal feedback on this pin"

## CY23EP09ZXI-1H
designator U?
Low Jitter, Zero Delay Buffer, 2.5 / 3.3 V, 9 Outputs, 10 to 220 MHz, -40 to 85 degC, 16-Pin TSSOP (ZX16), Tube; Manufacturer: Cypress; PartNumber: CY23EP09ZXI-1H; Input Frequency Max. (MHz): 220; Input Frequency Min. (MHz): 10; Max. Operating Voltage (V): 3.6; Min. Operating Voltage (V): 2.3; No. of Outputs: 9; DatasheetVersion: Rev. *C; PackageVersion: Rev. *D, 09/2011; PackageReference: ZX16; PackageDescription: 16-Pin Thin Shrink Small Outline Package, Body 5 x 4.4 mm, Pitch 0.65 mm; Supplier 1: Digi-Key; Supplier Part Number 1: 428-2213-5-ND; Supplier 2: Newark; Supplier Part Number 2: 19M5937; Supplier 3: Mouser; Supplier Part Number 3: 727-CY23EP09ZXI-1H; Max. Operating Temp. (degreesC): 85; Min. Operating Temp. (degreesC): -40; Output Frequency Max. (MHz): 220; Output Frequency Min. (MHz): 10; Packing: Tube; RoHS: Pb-Free; Mounting Technology: Surface Mount; Code_JEDEC: MO-153; ComponentLink1Description: Manufacturer URL; ComponentLink1URL: http://www.cypress.com/; ComponentLink2Description: Datasheet; ComponentLink2URL: http://www.cypress.com/?docID=29430; ComponentLink3Description: Package Specification; ComponentLink3URL: http://www.cypress.com/?docID=39143
footprint CYP-ZX16_N (SOP, 16-Leads, Body 5.1x4.5mm, Pitch 0.65mm, IPC Medium Density)
footprint CYP-ZX16_L (SOP, 16-Leads, Body 5.1x4.5mm, Pitch 0.65mm, IPC High Density)
footprint CYP-ZX16_M (SOP, 16-Leads, Body 5.1x4.5mm, Pitch 0.65mm, IPC Low Density)
pins: 1 REF (in) "Input reference frequency", 2 CLKA1 (hiz) "Buffered clock output, Bank A", 3 CLKA2 (hiz) "Buffered clock output, Bank A", 4 VDD (power) "3.3 V or 2.5 V supply", 5 GND (power) "Ground", 6 CLKB1 (hiz) "Buffered clock output, Bank B", 7 CLKB2 (hiz) "Buffered clock output, Bank B", 8 S2 (in) "Select input, bit 2", 9 S1 (in) "Select input, bit 1", 10 CLKB3 (hiz) "Buffered clock output, Bank B", 11 CLKB4 (hiz) "Buffered clock output, Bank B", 12 GND (power) "Ground", 13 VDD (power) "3.3 V or 2.5 V supply", 14 CLKA3 (hiz) "Buffered clock output, Bank A", 15 CLKA4 (hiz) "Buffered clock output, Bank A", 16 CLKOUT (out) "Buffered output, internal feedback on this pin"

## CY23EP09ZXI-1HT
designator U?
Low Jitter, Zero Delay Buffer, 2.5 / 3.3 V, 9 Outputs, 10 to 220 MHz, -40 to 85 degC, 16-Pin TSSOP (ZX16), Tape and Reel; Manufacturer: Cypress; PartNumber: CY23EP09ZXI-1HT; Input Frequency Max. (MHz): 220; Input Frequency Min. (MHz): 10; Max. Operating Voltage (V): 3.6; Min. Operating Voltage (V): 2.3; No. of Outputs: 9; DatasheetVersion: Rev. *C; PackageVersion: Rev. *D, 09/2011; PackageReference: ZX16; PackageDescription: 16-Pin Thin Shrink Small Outline Package, Body 5 x 4.4 mm, Pitch 0.65 mm; Supplier 1: Digi-Key; Supplier Part Number 1: CY23EP09ZXI-1HT-ND; Supplier 2: Newark; Supplier Part Number 2: 19M5938; Supplier 3: Mouser; Supplier Part Number 3: 727-CY23EP09ZXI-1HT; Max. Operating Temp. (degreesC): 85; Min. Operating Temp. (degreesC): -40; Output Frequency Max. (MHz): 220; Output Frequency Min. (MHz): 10; Packing: Tape and Reel; RoHS: Pb-Free; Mounting Technology: Surface Mount; Code_JEDEC: MO-153; ComponentLink1Description: Manufacturer URL; ComponentLink1URL: http://www.cypress.com/; ComponentLink2Description: Datasheet; ComponentLink2URL: http://www.cypress.com/?docID=29430; ComponentLink3Description: Package Specification; ComponentLink3URL: http://www.cypress.com/?docID=39143
footprint CYP-ZX16_N (SOP, 16-Leads, Body 5.1x4.5mm, Pitch 0.65mm, IPC Medium Density)
footprint CYP-ZX16_L (SOP, 16-Leads, Body 5.1x4.5mm, Pitch 0.65mm, IPC High Density)
footprint CYP-ZX16_M (SOP, 16-Leads, Body 5.1x4.5mm, Pitch 0.65mm, IPC Low Density)
pins: 1 REF (in) "Input reference frequency", 2 CLKA1 (hiz) "Buffered clock output, Bank A", 3 CLKA2 (hiz) "Buffered clock output, Bank A", 4 VDD (power) "3.3 V or 2.5 V supply", 5 GND (power) "Ground", 6 CLKB1 (hiz) "Buffered clock output, Bank B", 7 CLKB2 (hiz) "Buffered clock output, Bank B", 8 S2 (in) "Select input, bit 2", 9 S1 (in) "Select input, bit 1", 10 CLKB3 (hiz) "Buffered clock output, Bank B", 11 CLKB4 (hiz) "Buffered clock output, Bank B", 12 GND (power) "Ground", 13 VDD (power) "3.3 V or 2.5 V supply", 14 CLKA3 (hiz) "Buffered clock output, Bank A", 15 CLKA4 (hiz) "Buffered clock output, Bank A", 16 CLKOUT (out) "Buffered output, internal feedback on this pin"

## CY23FP12OXC
designator U?
Field Programmable Zero Delay Buffer, 2.5 / 3.3 V, 12 Outputs, 10 to 200 MHz, 0 to 70 degC, 28-Pin SSOP (OX28), Tube; Manufacturer: Cypress; PartNumber: CY23FP12OXC; Input Frequency Max. (MHz): 200; Input Frequency Min. (MHz): 10; Max. Operating Voltage (V): 3.465; Min. Operating Voltage (V): 3.135; No. of Outputs: 12; DatasheetVersion: Rev. *H; PackageVersion: Rev. *C, 10/2001; PackageReference: OX28; PackageDescription: 28-Pin SSOP, Body 10.2 x 5.3 mm, Pitch 0.65 mm; Supplier 1: Digi-Key; Supplier Part Number 1: 428-2214-5-ND; Supplier 2: Mouser; Supplier Part Number 2: 727-CY23FP12OXC; Max. Operating Temp. (degreesC): 70; Min. Operating Temp. (degreesC): 0; Output Frequency Max. (MHz): 200; Output Frequency Min. (MHz): 10; Packing: Tube; RoHS: Pb-Free; Mounting Technology: Surface Mount; ComponentLink1Description: Manufacturer URL; ComponentLink1URL: http://www.cypress.com/; ComponentLink2Description: Datasheet; ComponentLink2URL: http://www.cypress.com/?docID=47943; ComponentLink3Description: Package Specification; ComponentLink3URL: http://www.cypress.com/?docID=1371
footprint CYP-OX28_N (SOP, 28-Leads, Body 10.4x5.6mm, Pitch 0.65mm, IPC Medium Density)
footprint CYP-OX28_L (SOP, 28-Leads, Body 10.4x5.6mm, Pitch 0.65mm, IPC High Density)
footprint CYP-OX28_M (SOP, 28-Leads, Body 10.4x5.6mm, Pitch 0.65mm, IPC Low Density)
pins: 1 REF2 (in) "Input reference frequency, 5 V-tolerant input.", 2 REF1 (in) "Input reference frequency, 5 V-tolerant input.", 3 CLKB0 (hiz) "Clock output, Bank B", 4 CLKB1 (hiz) "Clock output, Bank B", 5 VSSB (power) "Ground for Bank B.", 6 CLKB2 (hiz) "Clock output, Bank B", 7 CLKB3 (hiz) "Clock output, Bank B", 8 VDDB (power) "2.5 V or 3.3 V supply, Bank B.", 9 VSSB (power) "Ground for Bank B.", 10 CLKB4 (hiz) "Clock output, Bank B", 11 CLKB5 (hiz) "Clock output, Bank B", 12 VDDB (power) "2.5 V or 3.3 V supply, Bank B.", 13 VDDC (power) "3.3 V core supply", 14 S2 (in) "Select input.", 15 S1 (in) "Select input.", 16 VSSC (power) "Ground for core.", 17 VDDA (power) "2.5 V or 3.3 V supply, Bank A.", 18 CLKA5 (hiz) "Clock output, Bank A.", 19 CLKA4 (hiz) "Clock output, Bank A.", 20 VSSA (power) "Ground for Bank A", 21 VDDA (power) "2.5 V or 3.3 V supply Bank A", 22 CLKA3 (hiz) "Clock output, Bank A.", 23 CLKA2 (hiz) "Clock output, Bank A.", 24 VSSA (power) "Ground for Bank A", 25 CLKA1 (hiz) "Clock output, Bank A.", 26 CLKA0 (hiz) "Clock output, Bank A.", 27 FBK (in) "PLL feedback input.", 28 REFSEL (in) "Reference select input. When REFSEL = 0, REF1 is selected. When REFSEL = 1, REF2 is selected."

## CY23FP12OXCT
designator U?
Field Programmable Zero Delay Buffer, 2.5 / 3.3 V, 12 Outputs, 10 to 200 MHz, 0 to 70 degC, 28-Pin SSOP (OX28), Tape and Reel; Manufacturer: Cypress; PartNumber: CY23FP12OXCT; Input Frequency Max. (MHz): 200; Input Frequency Min. (MHz): 10; Max. Operating Voltage (V): 3.465; Min. Operating Voltage (V): 3.135; No. of Outputs: 12; DatasheetVersion: Rev. *H; PackageVersion: Rev. *C, 10/2001; PackageReference: OX28; PackageDescription: 28-Pin SSOP, Body 10.2 x 5.3 mm, Pitch 0.65 mm; Supplier 1: Digi-Key; Supplier Part Number 1: CY23FP12OXCT-ND; Supplier 2: Mouser; Supplier Part Number 2: 727-CY23FP12OXCT; Max. Operating Temp. (degreesC): 70; Min. Operating Temp. (degreesC): 0; Output Frequency Max. (MHz): 200; Output Frequency Min. (MHz): 10; Packing: Tape and Reel; RoHS: Pb-Free; Mounting Technology: Surface Mount; ComponentLink1Description: Manufacturer URL; ComponentLink1URL: http://www.cypress.com/; ComponentLink2Description: Datasheet; ComponentLink2URL: http://www.cypress.com/?docID=47943; ComponentLink3Description: Package Specification; ComponentLink3URL: http://www.cypress.com/?docID=1371
footprint CYP-OX28_N (SOP, 28-Leads, Body 10.4x5.6mm, Pitch 0.65mm, IPC Medium Density)
footprint CYP-OX28_L (SOP, 28-Leads, Body 10.4x5.6mm, Pitch 0.65mm, IPC High Density)
footprint CYP-OX28_M (SOP, 28-Leads, Body 10.4x5.6mm, Pitch 0.65mm, IPC Low Density)
pins: 1 REF2 (in) "Input reference frequency, 5 V-tolerant input.", 2 REF1 (in) "Input reference frequency, 5 V-tolerant input.", 3 CLKB0 (hiz) "Clock output, Bank B", 4 CLKB1 (hiz) "Clock output, Bank B", 5 VSSB (power) "Ground for Bank B.", 6 CLKB2 (hiz) "Clock output, Bank B", 7 CLKB3 (hiz) "Clock output, Bank B", 8 VDDB (power) "2.5 V or 3.3 V supply, Bank B.", 9 VSSB (power) "Ground for Bank B.", 10 CLKB4 (hiz) "Clock output, Bank B", 11 CLKB5 (hiz) "Clock output, Bank B", 12 VDDB (power) "2.5 V or 3.3 V supply, Bank B.", 13 VDDC (power) "3.3 V core supply", 14 S2 (in) "Select input.", 15 S1 (in) "Select input.", 16 VSSC (power) "Ground for core.", 17 VDDA (power) "2.5 V or 3.3 V supply, Bank A.", 18 CLKA5 (hiz) "Clock output, Bank A.", 19 CLKA4 (hiz) "Clock output, Bank A.", 20 VSSA (power) "Ground for Bank A", 21 VDDA (power) "2.5 V or 3.3 V supply Bank A", 22 CLKA3 (hiz) "Clock output, Bank A.", 23 CLKA2 (hiz) "Clock output, Bank A.", 24 VSSA (power) "Ground for Bank A", 25 CLKA1 (hiz) "Clock output, Bank A.", 26 CLKA0 (hiz) "Clock output, Bank A.", 27 FBK (in) "PLL feedback input.", 28 REFSEL (in) "Reference select input. When REFSEL = 0, REF1 is selected. When REFSEL = 1, REF2 is selected."

## CY23FP12OXI
designator U?
Field Programmable Zero Delay Buffer, 2.5 / 3.3 V, 12 Outputs, 10 to 200 MHz, -40 to 85 degC, 28-Pin SSOP (OX28), Tube; Manufacturer: Cypress; PartNumber: CY23FP12OXI; Input Frequency Max. (MHz): 166.7; Input Frequency Min. (MHz): 10; Max. Operating Voltage (V): 3.465; Min. Operating Voltage (V): 3.135; No. of Outputs: 12; Output Frequency Max. (MHz): 200; DatasheetVersion: Rev. *H; PackageVersion: Rev. *C, 10/2001; PackageReference: OX28; PackageDescription: 28-Pin SSOP, Body 10.2 x 5.3 mm, Pitch 0.65 mm; Supplier 1: Digi-Key; Supplier Part Number 1: CY23FP12OXI-ND; Supplier 2: Mouser; Supplier Part Number 2: 727-CY23FP12OXI; Max. Operating Temp. (degreesC): 85; Min. Operating Temp. (degreesC): -40; Output Frequency Min. (MHz): 10; Packing: Tube; RoHS: Pb-Free; Mounting Technology: Surface Mount; ComponentLink1Description: Manufacturer URL; ComponentLink1URL: http://www.cypress.com/; ComponentLink2Description: Datasheet; ComponentLink2URL: http://www.cypress.com/?docID=47943; ComponentLink3Description: Package Specification; ComponentLink3URL: http://www.cypress.com/?docID=1371
footprint CYP-OX28_N (SOP, 28-Leads, Body 10.4x5.6mm, Pitch 0.65mm, IPC Medium Density)
footprint CYP-OX28_L (SOP, 28-Leads, Body 10.4x5.6mm, Pitch 0.65mm, IPC High Density)
footprint CYP-OX28_M (SOP, 28-Leads, Body 10.4x5.6mm, Pitch 0.65mm, IPC Low Density)
pins: 1 REF2 (in) "Input reference frequency, 5 V-tolerant input.", 2 REF1 (in) "Input reference frequency, 5 V-tolerant input.", 3 CLKB0 (hiz) "Clock output, Bank B", 4 CLKB1 (hiz) "Clock output, Bank B", 5 VSSB (power) "Ground for Bank B.", 6 CLKB2 (hiz) "Clock output, Bank B", 7 CLKB3 (hiz) "Clock output, Bank B", 8 VDDB (power) "2.5 V or 3.3 V supply, Bank B.", 9 VSSB (power) "Ground for Bank B.", 10 CLKB4 (hiz) "Clock output, Bank B", 11 CLKB5 (hiz) "Clock output, Bank B", 12 VDDB (power) "2.5 V or 3.3 V supply, Bank B.", 13 VDDC (power) "3.3 V core supply", 14 S2 (in) "Select input.", 15 S1 (in) "Select input.", 16 VSSC (power) "Ground for core.", 17 VDDA (power) "2.5 V or 3.3 V supply, Bank A.", 18 CLKA5 (hiz) "Clock output, Bank A.", 19 CLKA4 (hiz) "Clock output, Bank A.", 20 VSSA (power) "Ground for Bank A", 21 VDDA (power) "2.5 V or 3.3 V supply Bank A", 22 CLKA3 (hiz) "Clock output, Bank A.", 23 CLKA2 (hiz) "Clock output, Bank A.", 24 VSSA (power) "Ground for Bank A", 25 CLKA1 (hiz) "Clock output, Bank A.", 26 CLKA0 (hiz) "Clock output, Bank A.", 27 FBK (in) "PLL feedback input.", 28 REFSEL (in) "Reference select input. When REFSEL = 0, REF1 is selected. When REFSEL = 1, REF2 is selected."

## CY23FP12OXIT
designator U?
Field Programmable Zero Delay Buffer, 2.5 / 3.3 V, 12 Outputs, 10 to 200 MHz, -40 to 85 degC, 28-Pin SSOP (OX28), Tape and Reel; Manufacturer: Cypress; PartNumber: CY23FP12OXIT; Input Frequency Max. (MHz): 166.7; Input Frequency Min. (MHz): 10; Max. Operating Voltage (V): 3.465; Min. Operating Voltage (V): 3.135; No. of Outputs: 12; Output Frequency Max. (MHz): 200; DatasheetVersion: Rev. *H; PackageVersion: Rev. *C, 10/2001; PackageReference: OX28; PackageDescription: 28-Pin SSOP, Body 10.2 x 5.3 mm, Pitch 0.65 mm; Supplier 1: Digi-Key; Supplier Part Number 1: CY23FP12OXIT-ND; Supplier 2: Mouser; Supplier Part Number 2: 727-CY23FP12OXIT; Max. Operating Temp. (degreesC): 85; Min. Operating Temp. (degreesC): -40; Output Frequency Min. (MHz): 10; Packing: Tape and Reel; RoHS: Pb-Free; Mounting Technology: Surface Mount; ComponentLink1Description: Manufacturer URL; ComponentLink1URL: http://www.cypress.com/; ComponentLink2Description: Datasheet; ComponentLink2URL: http://www.cypress.com/?docID=47943; ComponentLink3Description: Package Specification; ComponentLink3URL: http://www.cypress.com/?docID=1371
footprint CYP-OX28_N (SOP, 28-Leads, Body 10.4x5.6mm, Pitch 0.65mm, IPC Medium Density)
footprint CYP-OX28_L (SOP, 28-Leads, Body 10.4x5.6mm, Pitch 0.65mm, IPC High Density)
footprint CYP-OX28_M (SOP, 28-Leads, Body 10.4x5.6mm, Pitch 0.65mm, IPC Low Density)
pins: 1 REF2 (in) "Input reference frequency, 5 V-tolerant input.", 2 REF1 (in) "Input reference frequency, 5 V-tolerant input.", 3 CLKB0 (hiz) "Clock output, Bank B", 4 CLKB1 (hiz) "Clock output, Bank B", 5 VSSB (power) "Ground for Bank B.", 6 CLKB2 (hiz) "Clock output, Bank B", 7 CLKB3 (hiz) "Clock output, Bank B", 8 VDDB (power) "2.5 V or 3.3 V supply, Bank B.", 9 VSSB (power) "Ground for Bank B.", 10 CLKB4 (hiz) "Clock output, Bank B", 11 CLKB5 (hiz) "Clock output, Bank B", 12 VDDB (power) "2.5 V or 3.3 V supply, Bank B.", 13 VDDC (power) "3.3 V core supply", 14 S2 (in) "Select input.", 15 S1 (in) "Select input.", 16 VSSC (power) "Ground for core.", 17 VDDA (power) "2.5 V or 3.3 V supply, Bank A.", 18 CLKA5 (hiz) "Clock output, Bank A.", 19 CLKA4 (hiz) "Clock output, Bank A.", 20 VSSA (power) "Ground for Bank A", 21 VDDA (power) "2.5 V or 3.3 V supply Bank A", 22 CLKA3 (hiz) "Clock output, Bank A.", 23 CLKA2 (hiz) "Clock output, Bank A.", 24 VSSA (power) "Ground for Bank A", 25 CLKA1 (hiz) "Clock output, Bank A.", 26 CLKA0 (hiz) "Clock output, Bank A.", 27 FBK (in) "PLL feedback input.", 28 REFSEL (in) "Reference select input. When REFSEL = 0, REF1 is selected. When REFSEL = 1, REF2 is selected."

## CY23FS04ZXC
designator U?
Failsafe(TM) Zero Delay Buffer, 2.5 / 3.3 V, 4 Outputs, 4.17 to 166.7 MHz, 0 to 70 degC, 16-Pin TSSOP (ZX16), Tube; Manufacturer: Cypress; PartNumber: CY23FS04ZXC; Input Frequency Max. (MHz): 166.7; Input Frequency Min. (MHz): 4.17; Max. Operating Voltage (V): 3.465; Min. Operating Voltage (V): 2.375; No. of Outputs: 4; DatasheetVersion: Rev. *G; PackageVersion: Rev. *D, 09/2011; PackageReference: ZX16; PackageDescription: 16-Pin Thin Shrink Small Outline Package, Body 5 x 4.4 mm, Pitch 0.65 mm; Supplier 1: Digi-Key; Supplier Part Number 1: CY23FS04ZXC-ND; Supplier 2: Mouser; Supplier Part Number 2: 727-CY23FS04ZXC; Max. Operating Temp. (degreesC): 70; Min. Operating Temp. (degreesC): 0; Output Frequency Max. (MHz): 166.7; Output Frequency Min. (MHz): 4.17; Packing: Tube; RoHS: Pb-Free; Mounting Technology: Surface Mount; Code_JEDEC: MO-153; ComponentLink1Description: Manufacturer URL; ComponentLink1URL: http://www.cypress.com/; ComponentLink2Description: Datasheet; ComponentLink2URL: http://www.cypress.com/?docID=30627; ComponentLink3Description: Package Specification; ComponentLink3URL: http://www.cypress.com/?docID=39143
footprint CYP-ZX16_N (SOP, 16-Leads, Body 5.1x4.5mm, Pitch 0.65mm, IPC Medium Density)
footprint CYP-ZX16_L (SOP, 16-Leads, Body 5.1x4.5mm, Pitch 0.65mm, IPC High Density)
footprint CYP-ZX16_M (SOP, 16-Leads, Body 5.1x4.5mm, Pitch 0.65mm, IPC Low Density)
pins: 1 REF1 (in) "Reference clock inputs. 5 V tolerant.", 2 REF2 (in) "Reference clock inputs. 5 V tolerant.", 3 CLKB1 (out) "Bank B clock outputs.", 4 CLKB2 (out) "Bank B clock outputs.", 5 S2 (in) "Frequency select pins and PLL and DCXO bypass mode", 6 VSS (power) "Ground", 7 VDDC (power) "3.3 V power supply", 8 XIN "Reference crystal input.", 9 XOUT "Reference crystal output.", 10 FAIL#/SAFE (out) "Valid reference indicator. A high level indicates a valid reference input.", 11 VDD (power) "2.5 V or 3.3 V power supply.", 12 S1 (in) "Frequency select pins and PLL and DCXO bypass mode", 13 CLKA2 (out) "Bank A clock outputs", 14 CLKA1 (out) "Bank A clock outputs", 15 FBK (in) "Feedback input to the PLL", 16 REFSEL (in) "Reference select. Selects the active reference clock from either REF1 or REF2. REFSEL = 1, REF1 is selected; REFSEL = 0, REF2 is selected."